# Altium schematic symbol library SCH - OPAMP - TI INA240A2PW.SchLib: 1 symbol
Pins are listed as number, name and electrical type; pins without a type are passive.

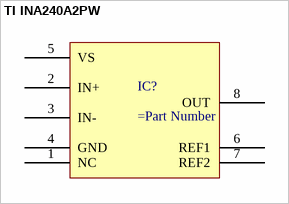
[diagram p0: symbol TI INA240A2PW]

## TI INA240A2PW
designator IC?
pins: 1 NC, 2 IN+, 3 IN-, 4 GND, 5 VS, 6 REF1, 7 REF2, 8 OUT